# EAGLE library part ES_PCB_CON (library Unicorn_ACU_LIB)
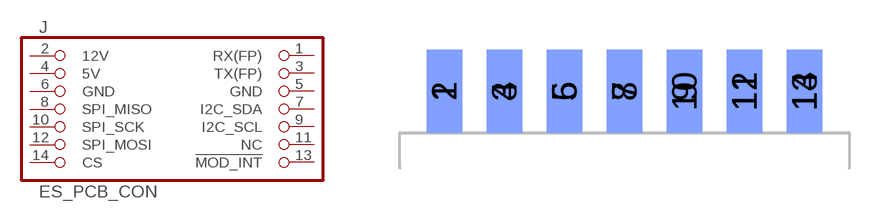
[diagram p0: symbol with the pads of ES_PCB_CON; footprint ES_PCB_CON]

Designator prefix J

## ES_PCB_CON  [ES_PCB_CON]
1  RX(FP)  pas
2  12V  pas
3  TX(FP)  pas
4  5V  pas
5  GND  pas
6  GND  pas
7  I2C_SDA  pas
8  SPI_MISO  pas
9  I2C_SCL  pas
10  SPI_SCK  pas
11  NC  pas
12  SPI_MOSI  pas
13  !MOD_INT  pas
14  CS  pas

## Footprint ES_PCB_CON (pad centres in mm)
smd 1.5 x 3.5 bottom: 1 -7.62,1.75; 3 -5.08,1.75; 5 -2.54,1.75; 7 0,1.75; 9 2.54,1.75; 11 5.08,1.75; 13 7.62,1.75
smd 1.5 x 3.5: 2 -7.62,1.75; 4 -5.08,1.75; 6 -2.54,1.75; 8 0,1.75; 10 2.54,1.75; 12 5.08,1.75; 14 7.62,1.75